# EAGLE library part MOLEX_SL_30 (library molex-sl-connectors_jw)
Molex SL-Series PCB Header, 30-Pos, 0.1" (2.54mm) Centers
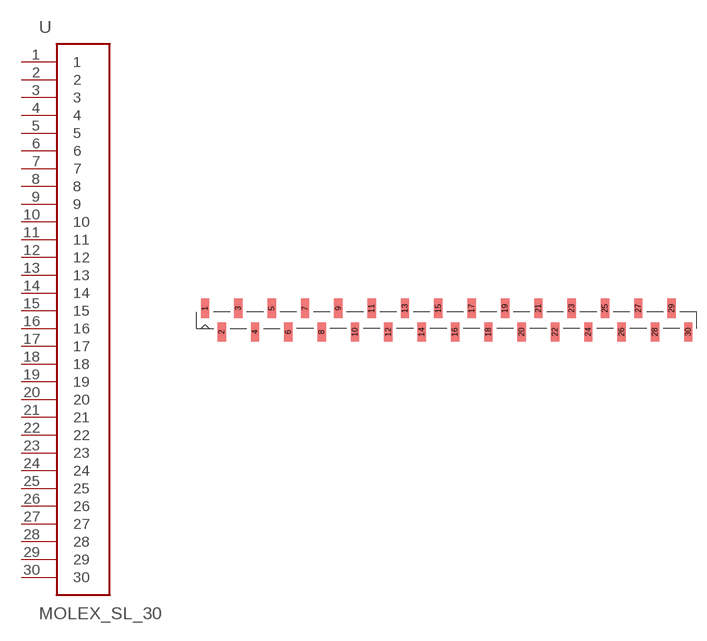
[diagram p24: symbol with the pads of SL_87898_30; footprint SL_87898_30]

Designator prefix -

## MOLEX_SL_30-87898  [SL_87898_30]
1  1
2  2
3  3
4  4
5  5
6  6
7  7
8  8
9  9
10  10
11  11
12  12
13  13
14  14
15  15
16  16
17  17
18  18
19  19
20  20
21  21
22  22
23  23
24  24
25  25
26  26
27  27
28  28
29  29
30  30

## Footprint SL_87898_30 (pad centres in mm)
SMD Vertical Header (no latch or pegs) Package also includes Pick-N-Place Cap Tube packaging w/o Pick-N-Place Cap: 87898-3021 87898-3022 87898-3024 87898-3025 87898-3026 Tube packaging w/ Pick-N-Place Cap: 87898-3031 87898-3032 87898-3034 87898-3035 87898-3036
smd 1.27 x 2.946: 1 -36.83,1.803; 2 -34.29,-1.803; 3 -31.75,1.803; 4 -29.21,-1.803; 5 -26.67,1.803; 6 -24.13,-1.803; 7 -21.59,1.803; 8 -19.05,-1.803; 9 -16.51,1.803; 10 -13.97,-1.803; 11 -11.43,1.803; 12 -8.89,-1.803; 13 -6.35,1.803; 14 -3.81,-1.803; 15 -1.27,1.803; 16 1.27,-1.803; 17 3.81,1.803; 18 6.35,-1.803; 19 8.89,1.803; 20 11.43,-1.803; 21 13.97,1.803; 22 16.51,-1.803; 23 19.05,1.803; 24 21.59,-1.803; 25 24.13,1.803; 26 26.67,-1.803; 27 29.21,1.803; 28 31.75,-1.803; 29 34.29,1.803; 30 36.83,-1.803